# EAGLE library part SN74LS373 (library logicIC)
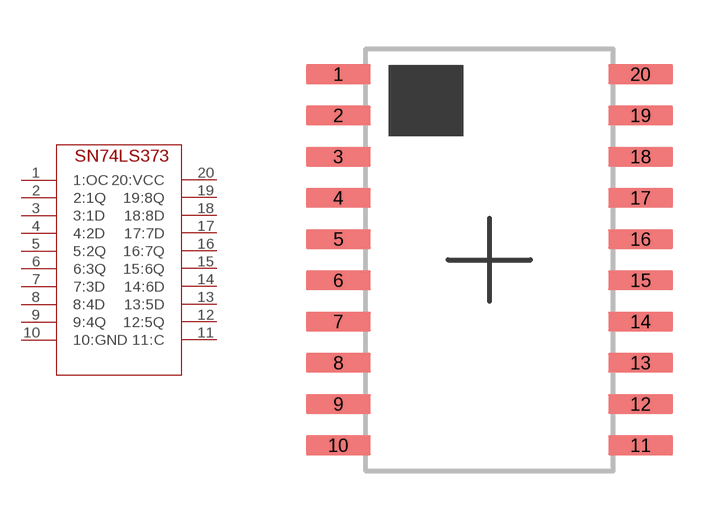
[diagram p0: symbol with the pads of SOIC20; footprint SOIC20]

Designator prefix -

## SN74LS373  [SOIC20]
1  1:OC  in
2  2:1Q  out
3  3:1D  in
4  4:2D  in
5  5:2Q  out
6  6:3Q  out
7  7:3D  in
8  8:4D  in
9  9:4Q  out
10  10:GND  pwr
11  11:C  in
12  12:5Q  out
13  13:5D  in
14  14:6D  in
15  15:6Q  out
16  16:7Q  out
17  17:7D  in
18  18:8D  in
19  19:8Q  out
20  20:VCC  pwr

## Footprint SOIC20 (pad centres in mm)
smd 2 x 0.6: 1 -4.65,5.715; 2 -4.65,4.445; 3 -4.65,3.175; 4 -4.65,1.905; 5 -4.65,0.635; 6 -4.65,-0.635; 7 -4.65,-1.905; 8 -4.65,-3.175; 9 -4.65,-4.445; 10 -4.65,-5.715; 11 4.65,-5.715; 12 4.65,-4.445; 13 4.65,-3.175; 14 4.65,-1.905; 15 4.65,-0.635; 16 4.65,0.635; 17 4.65,1.905; 18 4.65,3.175; 19 4.65,4.445; 20 4.65,5.715